# Altium footprint library Capacitors_Alu_Smd.PcbLib: 11 footprints
Each footprint in its own frame and in the unit in brackets; x right, y up, seen from the top. Pads: shape width x height; smd on the part's side, far side on the other; paste and mask are expansions set on the pad; w line width, h text height; cw(c..) or ccw(c..) is an arc to the next point about the centre after c.
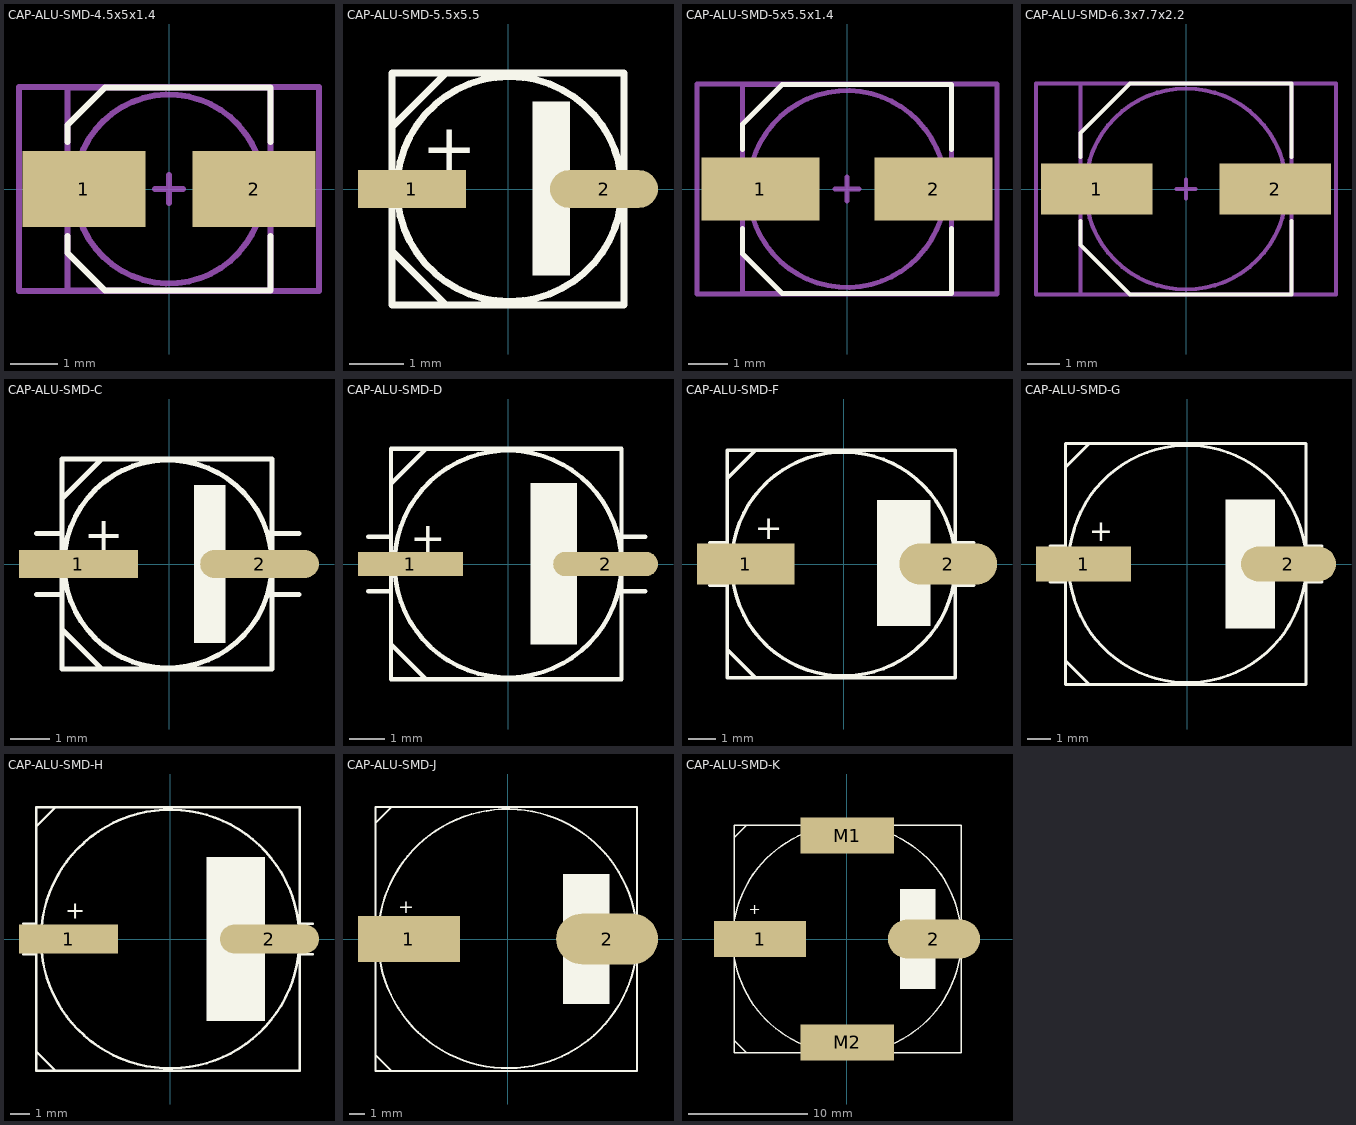
[diagram p0: the footprints below, top view; thin cyan lines are the x and y axes]

## CAP-ALU-SMD-4.5x5x1.4 [mm]
height 5.5
pads (2):
  rect 2.6x1.6 smd: 1(-1.8,0) 2(1.8,0)
Top Overlay:
  lines w0.127: -2.15,-1 -2.15,-1.35 -1.35,-2.15 2.15,-2.15 2.15,-1 ; -2.15,1 -2.15,1.35 -1.35,2.15 2.15,2.15 2.15,1
Mechanical 13:
  circle w0.127: c0,0 r2
  lines w0.127: -2.15,-2.15 2.15,-2.15 2.15,2.15 -2.15,2.15 -2.15,-2.15
Mechanical 15:
  lines w0.127: -0.3,0 0.3,0 ; 0,-0.3 0,0.3 ; -3.175,-2.159 3.175,-2.159 3.175,2.159 -3.175,2.159 -3.175,-2.159
3D body "4x5.5x1.stp": height 5.45, standoff -0.05, extent -2.5,-2.15 2.5,2.15

## CAP-ALU-SMD-5.5x5.5 [mm]
pads (2):
  rect 2x0.7 smd: 1(-1.778,0)
  oval 2x0.7 smd: 2(1.778,0)
Top Overlay:
  circle w0.127: c0.025,0 r2.083
  rectangle: 0.45,-1.6 1.15,1.625
  lines w0.127: -2.15,-1.15 -1.15,-2.15 ; -2.15,-0.05 -2.15,0.85 ; -2.15,1.15 -1.15,2.15 -0.85,2.15 ; -2.15,-2.15 2.15,-2.15 2.15,2.15 -2.15,2.15 -2.15,-2.15
  text "+" at -1.6,0.325 h0.89
3D body "User Library-ALU-B.STEP": height 5.4, standoff 0, extent -2.3,-2.15 2.3,2.15

## CAP-ALU-SMD-5x5.5x1.4 [mm]
height 5.5
pads (2):
  rect 3x1.6 smd: 1(-2.2,0) 2(2.2,0)
Top Overlay:
  lines w0.127: -2.65,-1 -2.65,-1.65 -1.65,-2.65 2.65,-2.65 2.65,-1 ; -2.65,1 -2.65,1.65 -1.65,2.65 2.65,2.65 2.65,1
Mechanical 13:
  circle w0.127: c0,0 r2.5
  lines w0.127: -2.65,-2.65 -2.65,2.65 2.65,2.65 2.65,-2.65 -2.65,-2.65
Mechanical 15:
  lines w0.127: -0.3,0 0.3,0 ; 0,-0.3 0,0.3 ; -3.81,-2.667 -3.81,2.667 3.81,2.667 3.81,-2.667 -3.81,-2.667
3D body "5x5.5x1.4.stp": height 5.45, standoff -0.05, extent -3,-2.65 3,2.65

## CAP-ALU-SMD-6.3x7.7x2.2 [mm]
height 7.7
pads (2):
  rect 3.5x1.6 smd: 1(-2.8,0) 2(2.8,0)
Top Overlay:
  lines w0.127: -3.3,-1 -3.3,-1.75 -1.75,-3.3 3.3,-3.3 3.3,-1 ; -3.3,1 -3.3,1.75 -1.75,3.3 3.3,3.3 3.3,1
Mechanical 13:
  circle w0.127: c0,0 r3.15
  lines w0.127: -3.3,-3.3 -3.3,3.3 3.3,3.3 3.3,-3.3 -3.3,-3.3
Mechanical 15:
  lines w0.127: -0.3,0 0.3,0 ; 0,-0.3 0,0.3 ; -4.699,-3.302 -4.699,3.302 4.699,3.302 4.699,-3.302 -4.699,-3.302
3D body "6.3x7.7x2.2.stp": height 7.65, standoff -0.05, extent -3.65,-3.3 3.65,3.3

## CAP-ALU-SMD-C [mm]
pads (2):
  rect 3x0.7 smd: 1(-2.286,0)
  oval 3x0.7 smd: 2(2.286,0)
Top Overlay:
  circle w0.127: c-0.025,0 r2.625
  rectangle: 0.625,-2 1.425,2
  lines w0.127: -3.35,-0.775 -2.7,-0.775 ; -3.35,0.775 -2.7,0.775 ; -2.7,-1.65 -1.7,-2.65 ; -2.7,1.65 -1.7,2.65 ; 2.6,-0.775 3.275,-0.775 ; 2.6,0.775 3.275,0.775 ; -2.7,-2.65 2.6,-2.65 2.6,2.65 -2.7,2.65 -2.7,0 -2.7,-2.65
  text "+" at -2.15,0.325 h0.89
3D body "User Library-ALU-C.STEP": height 5.41, standoff 0, extent -2.95,-2.65 2.95,2.65

## CAP-ALU-SMD-D [mm]
pads (2):
  rect 3x0.7 smd: 1(-2.794,0)
  oval 3x0.7 smd: 2(2.794,0)
Top Overlay:
  circle w0.127: c0,0 r3.25
  rectangle: 0.65,-2.3 1.975,2.325
  lines w0.127: -4,-0.775 -3.35,-0.775 ; -4,0.775 -3.35,0.775 ; -3.35,-2.65 -3.35,0 ; -3.35,-2.3 -2.35,-3.3 ; -3.35,2.3 -2.35,3.3 ; 3.25,-0.775 3.925,-0.775 ; 3.25,0.775 3.925,0.775 ; -3.35,-3.3 -3.35,0 ; -3.35,-3.3 -3.35,-3.3 ; -3.35,-3.3 3.25,-3.3 3.25,0 3.25,3.3 -3.35,3.3 -3.35,0
  text "+" at -2.8,0.325 h0.89
3D body "User Library-ALU-D.STEP": height 5.4, standoff 0, extent -3.5,-3.3 3.5,3.3

## CAP-ALU-SMD-F [mil]
pads (2):
  rect 140x59.06 smd: 1(-140,0)
  oval 140x59.06 smd: 2(150,0)
Top Overlay:
  circle w5: c0,0 r160.44
  rectangle: 48.23,-88.58 125,91.54
  lines w5: -191.93,-30.51 -166.34,-30.51 ; -191.93,30.51 -166.34,30.51 ; -166.34,-104.33 -166.34,0 ; -166.34,104.33 -166.34,0 ; -165.35,-124.02 -125.98,-163.39 ; -165.35,124.02 -125.98,163.39 ; 160.43,-30.51 187.01,-30.51 ; 160.44,0 ccw(c0,0) 160.43,0.99 ; 160.43,30.51 187.01,30.51 ; -166.34,-129.92 -166.34,0 ; -166.34,-129.92 -166.34,-129.92 ; -166.34,0 -166.34,-163.39 160.43,-163.39 160.43,-0.98 ; -166.34,0 -166.34,129.92 ; -166.34,0 -166.34,163.39 160.43,163.39 160.43,0.98 ; -166.34,129.92 -166.34,129.92 ; 160.43,-0.98 160.43,-0.98 ; 160.43,0.98 160.43,0.98
  text "+" at -126.97,35.43 h35
3D body "User Library-ALU-F.STEP": height 401.57, standoff 0, extent -194.89,-163.39 194.88,163.38

## CAP-ALU-SMD-G [mil]
pads (2):
  rect 160x59.06 smd: 1(-175,0)
  oval 160x59.06 smd: 2(170,0)
Top Overlay:
  circle w5: c0,0 r199.81
  rectangle: 63.98,-108.27 147.64,108.27
  lines w5: -231.3,-30.51 -205.71,-30.51 ; -231.3,30.51 -205.71,30.51 ; -205.71,-163.39 -205.71,0 ; -205.71,-104.33 -205.71,0 ; -205.71,104.33 -205.71,0 ; -205.71,163.39 -205.71,0 ; -204.72,-163.39 -165.35,-202.76 ; -204.72,163.39 -165.35,202.76 ; 199.8,-30.51 226.38,-30.51 ; 199.81,0 ccw(c39.37,0) 199.8,0.99 ; 199.8,30.51 226.38,30.51 ; -205.71,-202.76 -205.71,0 ; -205.71,-202.76 -205.71,-202.76 ; -205.71,-202.76 199.8,-202.76 199.8,-0.98 ; -205.71,-129.92 -205.71,0 ; -205.71,-129.92 -205.71,-129.92 ; -205.71,0 -205.71,129.92 ; -205.71,0 -205.71,202.76 ; -205.71,129.92 -205.71,129.92 ; -205.71,202.76 -205.71,202.76 ; -205.71,202.76 199.8,202.76 199.8,0.98 ; 199.8,-0.98 199.8,-0.98 ; 199.8,0.98 199.8,0.98
  text "+" at -165.35,38.39 h35
3D body "User Library-ALU-G.STEP": height 401.57, standoff 0, extent -233.35,-202.75 223.34,202.76

## CAP-ALU-SMD-H [mm]
pads (2):
  rect 5.08x1.5 smd: 1(-5.207,0)
  oval 5.08x1.5 smd: 2(5.08,0)
Top Overlay:
  circle w0.127: c0,0 r6.625
  rectangle: 1.85,-4.2 4.85,4.2
  lines w0.127: -7.525,-0.775 -6.875,-0.775 ; -7.525,0.775 -6.875,0.775 ; -6.875,-5.75 -5.875,-6.75 ; -6.875,5.75 -5.875,6.75 ; 6.625,-0.775 7.3,-0.775 ; 6.625,0.775 7.3,0.775 ; -6.875,-6.75 6.625,-6.75 6.625,0 6.625,6.75 -6.875,6.75 ; -6.875,-6.75 -6.875,-6.75 ; -6.875,-6.75 -6.875,0 -6.875,6.75 ; -6.875,6.75 -6.875,6.75 ; -6.875,-5.15 -6.875,-5.15 ; -6.875,5.15 -6.875,5.15
  text "+" at -5.375,1.05 h0.89
3D body "User Library-capacitor size H13.step": height 13.5, standoff -0.01, extent -7.154,-6.877 6.646,6.623

## CAP-ALU-SMD-J [mm]
pads (2):
  rect 6.6x3 smd: 1(-6.425,0)
  oval 6.6x3.3 smd: 2(6.425,0)
Top Overlay:
  rectangle: 3.575,-4.2 6.575,4.2
  lines w0.127: -8.575,-7.55 -7.575,-8.55 ; -8.575,7.55 -7.575,8.55 ; 8.375,0.025 ccw(c-0.025,0.025) 8.375,0 ; -8.6,-6.75 -8.6,0 ; -8.6,-6.75 -8.6,-6.75 ; -8.6,0 -8.6,8.55 8.35,8.55 8.375,8.575 8.375,0 ; -8.6,0 -8.6,6.75 ; -8.6,0 -8.6,-8.55 8.35,-8.55 8.375,-8.575 8.375,0 ; -8.6,6.75 -8.6,6.75 ; -8.6,-5.15 -8.6,-5.15 ; -8.6,5.15 -8.6,5.15
  text "+" at -7.125,1.675 h0.89
3D body "User Library-capacitor size J16.step": height 16.5, standoff -0.01, extent -8.977,-8.5 8.723,8.5

## CAP-ALU-SMD-K [mm]
pads (4):
  rect 7.7x3 smd: 1(-7.275,0)
  oval 7.7x3.3 smd: 2(7.275,0)
  rect 7.8x3 smd: M1(0.025,8.65) M2(0.025,-8.65)
Top Overlay:
  circle w0.127: c0,-0.025 r9.55
  rectangle: 4.425,-4.2 7.425,4.2
  lines w0.127: -9.45,-8.55 -9.45,0 ; -9.45,8.55 -9.45,0 ; -9.425,-8.5 -8.425,-9.5 ; -9.425,8.5 -8.425,9.5 ; 9.55,-0.025 9.55,-9.5 -9.45,-9.5 ; 9.55,0.025 9.55,9.5 -9.45,9.5 ; -9.45,-9.5 -9.45,-9.5 ; -9.45,-9.5 -9.45,0 ; -9.45,-6.75 -9.45,0 ; -9.45,-6.75 -9.45,-6.75 ; -9.45,0 -9.45,9.5 ; -9.45,0 -9.45,6.75 ; -9.45,6.75 -9.45,6.75 ; -9.45,9.5 -9.45,9.5 ; -9.45,-5.15 -9.45,-5.15 ; -9.45,5.15 -9.45,5.15
  text "+" at -8.2,2.075 h0.89
3D body "User Library-capacitor size K16.step": height 16.5, standoff -0.01, extent -10.05,-9.5 10.05,9.5